# EAGLE library part USB_UART (library hw6_lib)
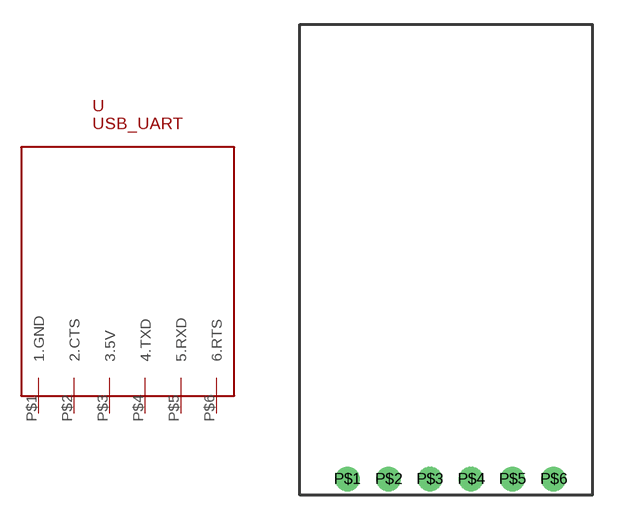
[diagram p8: symbol with the pads of USB_UART; footprint USB_UART]

Designator prefix -

## USB_UART  [USB_UART]
P$1  1.GND
P$2  2.CTS
P$3  3.5V
P$4  4.TXD
P$5  5.RXD
P$6  6.RTS

## Footprint USB_UART (pad centres in mm)
drill 1: P$1 -5.08,0; P$2 -2.54,0; P$3 0,0; P$4 2.54,0; P$5 5.08,0; P$6 7.62,0